# Altium schematic symbol library SB.SchLib: 1 symbol
Pins are listed as number, name and electrical type; pins without a type are passive.

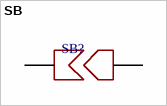
[diagram p0: symbol SB]

## SB
designator SB?, comment net_tie  (value not drawn)  (net tie, no BOM)
Solder bridge, мост припоя, запаиваемая перемычка, net tie, jumper
pins: 1, 2